# EAGLE library part LTC128*C (library linear-technology)
3V Micropower Sampling 12-Bit A/D Converters Source: http://www.linear.com/pc/downloadDocument.do?navId=H0,C1,C1155,C1001,C1158,P1489,D3463
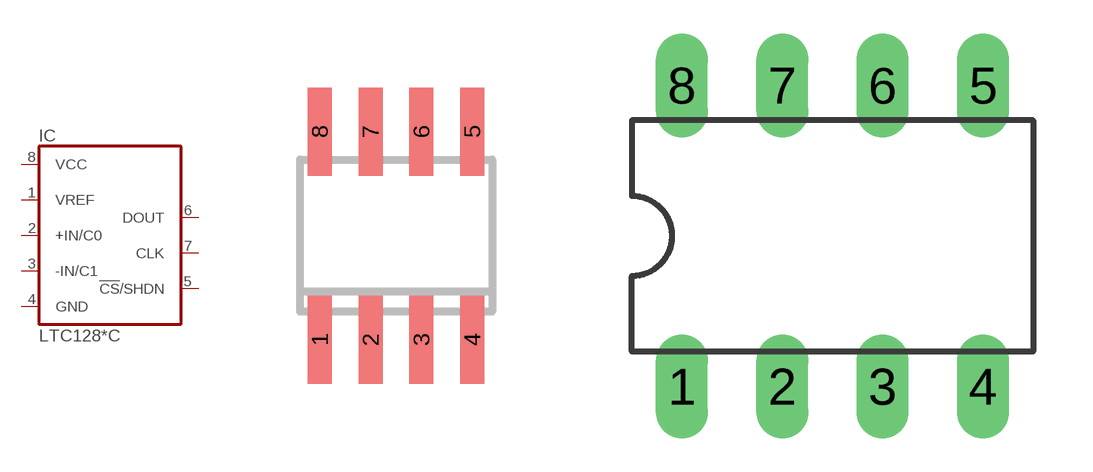
[diagram p7: symbol with the pads of SOIC8; footprints SOIC8, DIL08]

Designator prefix IC

## LTC1285CS8 (MPN: LTC1285CS8; OC_FARNELL: 4767585; OC_NEWARK: 56M0033), LTC1288CS8 (MPN: LTC1288CS8; OC_FARNELL: 9561013; OC_NEWARK: 56M0059)  [SOIC8]
1  VREF  in
2  +IN/C0  in
3  -IN/C1  in
4  GND  pwr
5  !CS!/SHDN  out
6  DOUT  out
7  CLK  in
8  VCC  pwr

## LTC1285CN8 (MPN: LTC1285CN8; OC_FARNELL: 1330820; OC_NEWARK: 56M0031), LTC1288CN8 (MPN: LTC1288CN8; OC_FARNELL: 1330821; OC_NEWARK: 56M0057)  [DIL08]
Pads as for SOIC8

## Footprint SOIC8 (pad centres in mm)
Small Outline IC
smd 0.6 x 2.2: 1 -1.905,-2.6; 2 -0.635,-2.6; 3 0.635,-2.6; 4 1.905,-2.6; 5 1.905,2.6; 6 0.635,2.6; 7 -0.635,2.6; 8 -1.905,2.6

## Footprint DIL08 (pad centres in mm)
Dual In Line Package
drill 0.813 long: 1 -3.81,-3.81; 2 -1.27,-3.81; 3 1.27,-3.81; 4 3.81,-3.81; 5 3.81,3.81; 6 1.27,3.81; 7 -1.27,3.81; 8 -3.81,3.81